# Altium footprint library LF10WBRB-12PD.PCBLIB: 1 footprints
Each footprint in its own frame and in the unit in brackets; x right, y up, seen from the top. Pads: shape width x height; smd on the part's side, far side on the other; paste and mask are expansions set on the pad; w line width, h text height; cw(c..) or ccw(c..) is an arc to the next point about the centre after c.
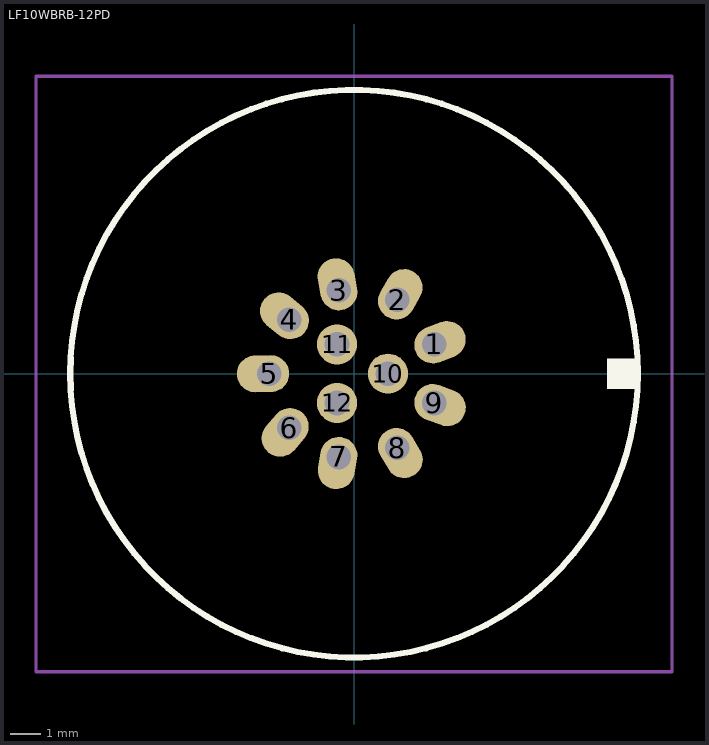
[diagram p0: the footprint, top view; thin cyan lines are the x and y axes]

## LF10WBRB-12PD [mm]
pads (12):
  oval 1.2x1.7 hole 0.8 copper offset 0.187,0.07 rot 110.5: 1(2.6,0.95)
  oval 1.2x1.7 hole 0.8 copper offset 0.099,0.174 rot 150.25: 2(1.4,2.4)
  oval 1.2x1.7 hole 0.8 copper offset -0.036,0.197 rot 10.5: 3(-0.5,2.7)
  oval 1.2x1.7 hole 0.8 copper offset -0.155,0.127 rot 50.6: 4(-2.1,1.75)
  oval 1.2x1.7 hole 0.8 copper offset -0.2,-0.002 rot 90.7: 5(-2.75,0)
  oval 1.2x1.7 hole 0.8 copper offset -0.13,-0.152 rot 139.4: 6(-2.1,-1.75)
  oval 1.2x1.7 hole 0.8 copper offset -0.033,-0.197 rot 170.5: 7(-0.5,-2.7)
  oval 1.2x1.7 hole 0.8 copper offset 0.102,-0.172 rot 30.5: 8(1.4,-2.4)
  oval 1.2x1.7 hole 0.8 copper offset 0.188,-0.068 rot 70: 9(2.6,-0.95)
  round 1.3 hole 0.8: 10(1.1,0) 11(-0.55,0.95) 12(-0.55,-0.95)
Top Overlay:
  circle w0.2: c0,0 r9.2
  rectangle: 8.2,-0.5 9.2,0.5
Top Courtyard:
  lines w0.1: -10.315,-9.661 -10.315,9.641 10.313,9.641 10.313,-9.661 -9.815,-9.661 -10.315,-9.661
3D body "LF10WBRB-12PD--3DModel-STEP-1.STEP": height 14.55, standoff -2.95, extent -9.815,-9.159 9.815,9.141